# Altium schematic symbol library SMT_Passive-Components.SchLib: 8 symbols
Pins are listed as number, name and electrical type; pins without a type are passive.

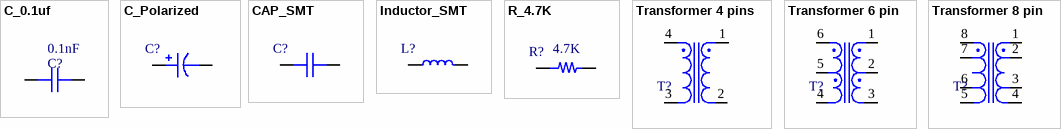
[diagram p0: symbols C_0.1uf to Transformer 8 pin]

## C_0.1uf
designator C?, comment value 0.1nF  (hidden comment: Capacitor)
50V 100nF X7R ±10% 0402 Multilayer Ceramic Capacitors MLCC - SMD/SMT ROHS; Mfr: YAGEO; Mfr_prt_no: CC0402KRX7R9BB104; pkg: 0402; ComponentLink1Description: New link; ComponentLink1URL: https://www.lcsc.com/product-detail/Multilayer-Ceramic-Capacitors-MLCC-SMD-SMT_YAGEO-CC0402KRX7R9BB104_C131394.html; supplier: LCSC; supplier_prt_no: C131394
footprint C0402
pins: 1, 1

## C_Polarized
designator C?, comment Polarized Capacitor  (value not drawn)
ComponentLink1Description: New link
footprint C_CASE-D-7343
footprint C_CASE-C-6032
footprint C1206_Tantalum
pins: 1, 1

## CAP_SMT
designator C?, comment Capacitor  (value not drawn)
ComponentLink1Description: New link
footprint C0402
footprint C0603
footprint C0805
footprint C1206
pins: 1, 1

## Inductor_SMT
designator L?, comment Inductor  (value not drawn)
ComponentLink1Description: New link
footprint L_0805
pins: 1, 2

## R_4.7K
designator R?, comment value 4.7K  (hidden comment: Resistor)
62.5mW Thick Film Resistors 50V ±100ppm/℃ ±5% 4.7kΩ 0402 Chip Resistor - Surface Mount ROHS; Mfr: YAGEO; Mfr_prt_no: RC0402JR-074K7L; pkg: 0402; ComponentLink1Description: New link; ComponentLink1URL: *; supplier: LCSC; supplier_prt_no: C105870
footprint R0402
pins: 1, 1

## Transformer 4 pins
designator T?, comment Transformer  (value not drawn)
ComponentLink1Description: New link
pins: 1, 2, 3, 4

## Transformer 6 pin
designator T?, comment Transformer  (value not drawn)
ComponentLink1Description: New link
pins: 1, 2, 3, 4, 5, 6

## Transformer 8 pin
designator T?, comment Transformer  (value not drawn)
ComponentLink1Description: New link
pins: 1, 2, 3, 4, 5, 6, 7, 8